# EAGLE library part SN6505X (library transformer-drivers)
SN6505 Low-Noise 1-A Transformer Drivers for Isolated Power Supplies The SN6505 is a low-noise, low-EMI push-pull transformer driver, specifically designed for small form factor, isolated power supplies. It drives low- profile, center-tapped transformers from a 2.25 V to 5 V DC power supply. Ultra-low noise and EMI are achieved by slew rate control of the output switch voltage and through Spread Spectrum Clocking (SSC). The SN6505 consists of an oscillator followed by a gate drive circuit that provides the complementary output signals to drive ground- referenced N-channel power switches. The device includes two 1-A Power-MOSFET switches to ensure start-up under heavy loads. The switching clock can also be provided externally for accurate placement of switcher harmonics, or when operating with multiple transformer drivers. The internal protection features include a 1.7A current limiting, under-voltage lockout, thermal shutdown, and break-before-make circuitry. SN6505 includes a soft-start feature that prevents high inrush current during power up with large load capacitors. The SN6505 is available in a small 6-pin SOT23/DBV package. The device operation is characterized for a temperature range from –55°C to 125°C.
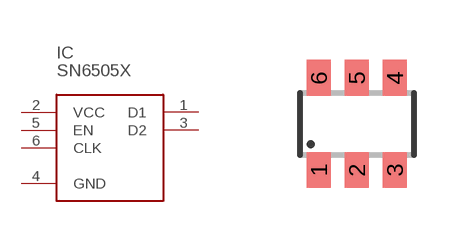
[diagram p0: symbol with the pads of SOT23-6; footprint SOT23-6]

Designator prefix IC

## SN6505X  [SOT23-6]
1  D1
2  VCC
3  D2
4  GND
5  EN
6  CLK

## Footprint SOT23-6 (pad centres in mm)
Small Outline Transistor 6 lead
smd 0.6 x 0.9: 1 -0.95,-1.15; 2 0,-1.15; 3 0.95,-1.15; 4 0.95,1.15; 5 0,1.15; 6 -0.95,1.15